# Altium footprint library MSOP-8.PCBLIB: 1 footprints
Each footprint in its own frame and in the unit in brackets; x right, y up, seen from the top. Pads: shape width x height; smd on the part's side, far side on the other; paste and mask are expansions set on the pad; w line width, h text height; cw(c..) or ccw(c..) is an arc to the next point about the centre after c.
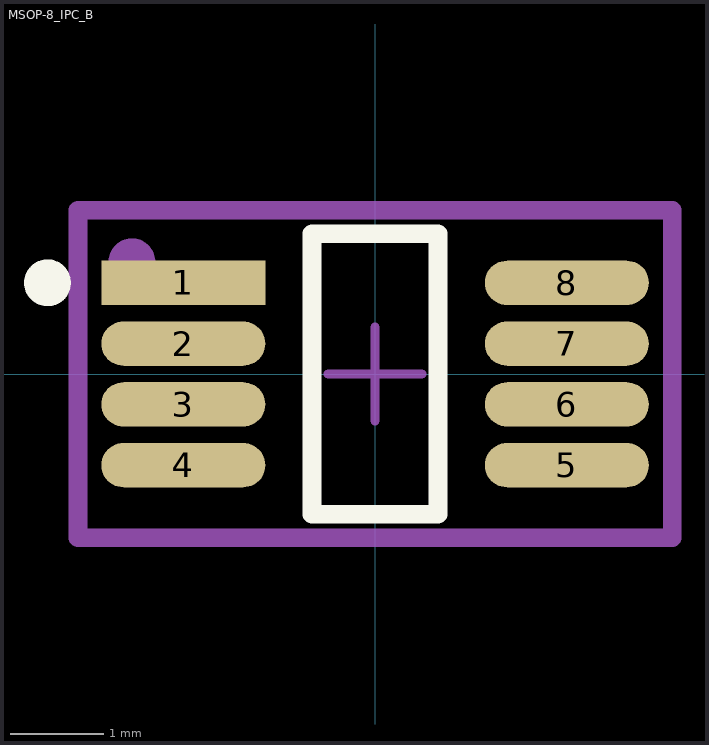
[diagram p0: the footprint, top view; thin cyan lines are the x and y axes]

## MSOP-8_IPC_B [mm]
pads (8):
  rect 1.754x0.476 smd paste+0 mask+0: 1(-2.05,0.975)
  rrect100% 1.754x0.476 smd paste+0 mask+0: 2(-2.05,0.325) 3(-2.05,-0.325) 4(-2.05,-0.975) 5(2.05,-0.975) 6(2.05,-0.325) 7(2.05,0.325) 8(2.05,0.975)
Top Overlay:
  circle w0.25: c-3.502,0.975 r0.125
  lines w0.2: -0.673,-1.5 -0.673,1.5 0.673,1.5 0.673,-1.5 -0.673,-1.5
Top Assembly:
  circle w0.25: c-2.6,1.2 r0.125
  lines w0.2: -3.177,-1.75 -3.177,1.75 3.177,1.75 3.177,-1.75 -3.177,-1.75
Top Courtyard:
  lines w0.2: -3.177,-1.75 -3.177,1.75 3.177,1.75 3.177,-1.75 -3.177,-1.75
Top Designator:
  text ".Designator" at 0,0.188 h1
Top Component Center:
  lines w0.1: -0.5,0 0.5,0 ; 0,-0.5 0,0.5
3D body "MSOP-8.STEP": height 1.15, standoff 0, extent -2.45,-1.5 2.45,1.5